# EAGLE library part ATARI_TIA (library Atari)
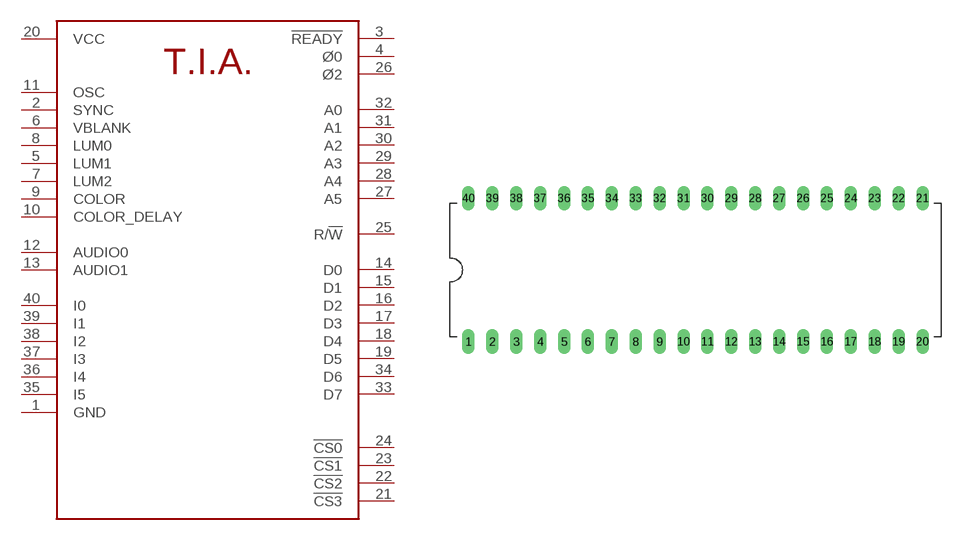
[diagram p1: symbol with the pads of DIL40; footprint DIL40]

Designator prefix -

## ATARI_TIA  [DIL40]
1  GND  sup
2  SYNC  out
3  !READY  out
4  Ø0  out
5  LUM1  out
6  VBLANK  out
7  LUM2  out
8  LUM0  out
9  COLOR  out
10  COLOR_DELAY  in
11  OSC  in
12  AUDIO0  out
13  AUDIO1  out
14  D0  in
15  D1  in
16  D2  in
17  D3  in
18  D4  in
19  D5  in
20  VCC  sup
21  !CS3  out
22  !CS2  out
23  !CS1  out
24  !CS0  out
25  R/!W  in
26  Ø2  in
27  A5  in
28  A4  in
29  A3  in
30  A2  in
31  A1  in
32  A0  in
33  D7
34  D6
35  I5  in
36  I4  in
37  I3  in
38  I2  in
39  I1  in
40  I0  in

## Footprint DIL40 (pad centres in mm)
Dual In Line Package: 40-pin PDIP
drill 0.8 long: 1 -24.13,-7.62; 2 -21.59,-7.62; 3 -19.05,-7.62; 4 -16.51,-7.62; 5 -13.97,-7.62; 6 -11.43,-7.62; 7 -8.89,-7.62; 8 -6.35,-7.62; 9 -3.81,-7.62; 10 -1.27,-7.62; 11 1.27,-7.62; 12 3.81,-7.62; 13 6.35,-7.62; 14 8.89,-7.62; 15 11.43,-7.62; 16 13.97,-7.62; 17 16.51,-7.62; 18 19.05,-7.62; 19 21.59,-7.62; 20 24.13,-7.62; 21 24.13,7.62; 22 21.59,7.62; 23 19.05,7.62; 24 16.51,7.62; 25 13.97,7.62; 26 11.43,7.62; 27 8.89,7.62; 28 6.35,7.62; 29 3.81,7.62; 30 1.27,7.62; 31 -1.27,7.62; 32 -3.81,7.62; 33 -6.35,7.62; 34 -8.89,7.62; 35 -11.43,7.62; 36 -13.97,7.62; 37 -16.51,7.62; 38 -19.05,7.62; 39 -21.59,7.62; 40 -24.13,7.62